# Altium schematic symbol library sim-technology.SCHLIB: 1 symbol
Pins are listed as number, name and electrical type; pins without a type are passive.

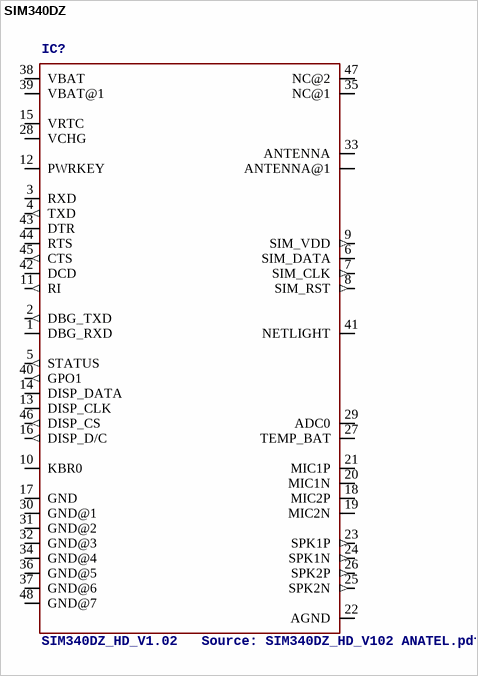
[diagram p0: symbol SIM340DZ]

## SIM340DZ
designator IC?, comment SIM340DZ_HD_V1.02   Source: SIM340DZ_HD_V102 ANATEL.pdf
footprint SIM340DZ
pins: 1 DBG_RXD, 2 DBG_TXD (out), 3 RXD, 4 TXD (out), 5 STATUS (out), 6 SIM_DATA, 7 SIM_CLK (out), 8 SIM_RST (out), 9 SIM_VDD (out), 10 KBR0, 11 RI (out), 12 PWRKEY, 13 DISP_CLK, 14 DISP_DATA, 15 VRTC, 16 DISP_D/C (out), 17 GND (power), 18 MIC2P, 19 MIC2N, 20 MIC1N, 21 MIC1P, 22 AGND (power), 23 SPK1P (out), 24 SPK1N (out), 25 SPK2N (out), 26 SPK2P (out), 27 TEMP_BAT, 28 VCHG, 29 ADC0, 30 GND@1 (power), 31 GND@2 (power), 32 GND@3 (power), 33 ANTENNA, 33.1 ANTENNA@1, 34 GND@4 (power), 35 NC@1, 36 GND@5 (power), 37 GND@6 (power), 38 VBAT, 39 VBAT@1, 40 GPO1 (out), 41 NETLIGHT, 42 DCD, 43 DTR, 44 RTS, 45 CTS (out), 46 DISP_CS (out), 47 NC@2, 48 GND@7